# Altium footprint library LCD_1.47_172_320_TOP_2022-03-14.PcbLib: 1 footprints
Each footprint in its own frame and in the unit in brackets; x right, y up, seen from the top. Pads: shape width x height; smd on the part's side, far side on the other; paste and mask are expansions set on the pad; w line width, h text height; cw(c..) or ccw(c..) is an arc to the next point about the centre after c.
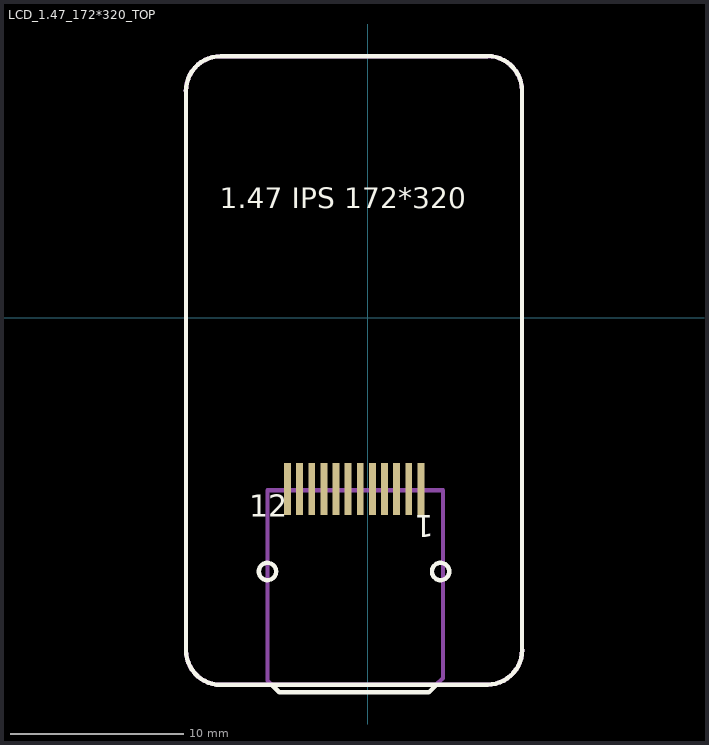
[diagram p0: the footprint, top view; thin cyan lines are the x and y axes]

## LCD_1.47_172*320_TOP [mm]
pads (12):
  rect 0.4x3 smd: 1(3.086,-9.895) 2(2.379,-9.883) 3(1.679,-9.883) 4(0.979,-9.883) 5(0.279,-9.883) 6(-0.421,-9.883) 7(-1.121,-9.883) 8(-1.821,-9.883) 9(-2.521,-9.883) 10(-3.221,-9.883) 11(-3.921,-9.883) 12(-4.621,-9.883)
Top Overlay:
  circle w0.254: c-5.779,-14.647 r0.5
  circle w0.254: c4.221,-14.647 r0.5
  lines w0.254: -10.487,13.111 cw(c-8.487,13.111) -8.487,15.111 6.911,15.111 ; -10.482,13.106 -10.483,-19.195 ccw(c-8.482,-19.195) -8.482,-21.195 ; -8.473,-21.179 6.936,-21.179 ; -5.529,-21.186 -5.097,-21.618 -0.773,-21.618 ; -0.779,-21.618 3.545,-21.618 3.977,-21.186 ; 6.924,15.123 cw(c6.924,13.123) 8.924,13.123 8.924,-19.174 ; 6.93,-21.179 ccw(c6.93,-19.179) 8.93,-19.179
  text "1" at 3.819,-11.401 h1.27
  text "12" at -6.824,-11.477 h1.27
  text "1.47 IPS 172*320" at -8.545,5.916 h2.03
Mechanical 15:
  lines w0.254: -5.472,-21.25 -5.777,-20.945 -5.777,-9.947 4.358,-9.947 4.358,-20.805 3.939,-21.224 ; 6.923,15.111 7.165,15.111 ; 6.93,-21.179 ccw(c6.93,-19.179) 8.93,-19.179 ; 6.936,-21.186 -8.473,-21.186 ccw(c-8.474,-21.195) -8.483,-21.195 cw(c-8.483,-19.195) -10.483,-19.195 -10.483,13.106 ccw(c-10.488,13.106) -10.488,13.111 cw(c-8.488,13.111) -8.488,15.111 6.911,15.111 ccw(c6.911,15.123) 6.923,15.123 cw(c6.923,13.123) 8.923,13.123 8.923,-19.174